# EAGLE library part W5100 (library IC)
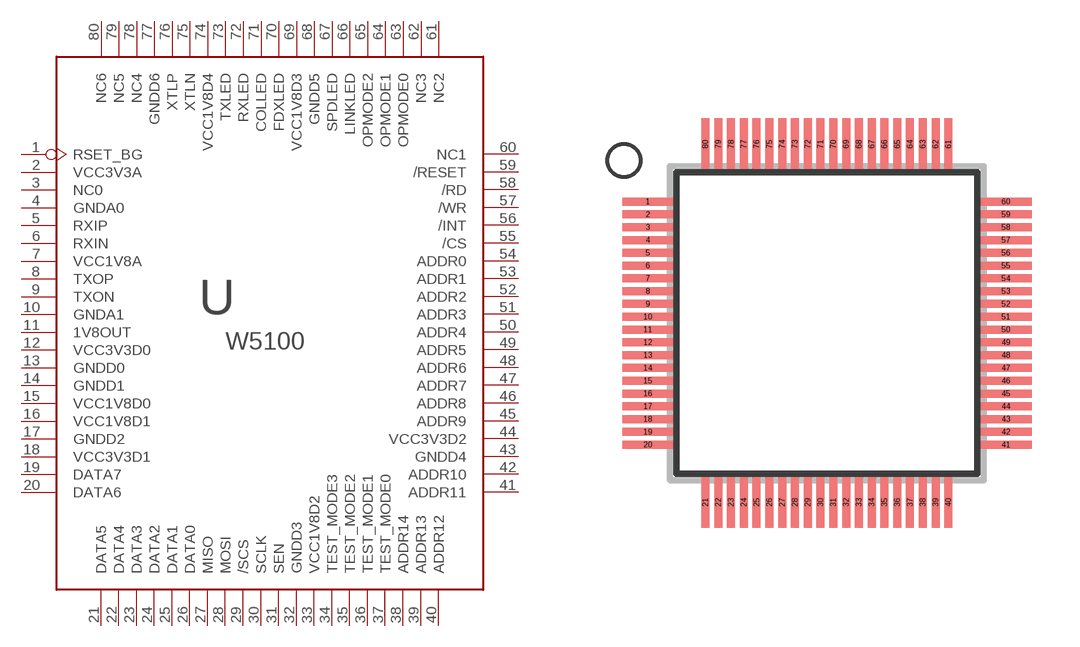
[diagram p154: symbol with the pads of SQFP80; footprint SQFP80]

Designator prefix U

## W5100  [SQFP80]
1  RSET_BG
2  VCC3V3A
3  NC0
4  GNDA0
5  RXIP
6  RXIN
7  VCC1V8A
8  TXOP
9  TXON
10  GNDA1
11  1V8OUT
12  VCC3V3D0
13  GNDD0
14  GNDD1
15  VCC1V8D0
16  VCC1V8D1
17  GNDD2
18  VCC3V3D1
19  DATA7
20  DATA6
21  DATA5
22  DATA4
23  DATA3
24  DATA2
25  DATA1
26  DATA0
27  MISO
28  MOSI
29  /SCS
30  SCLK
31  SEN
32  GNDD3
33  VCC1V8D2
34  TEST_MODE3
35  TEST_MODE2
36  TEST_MODE1
37  TEST_MODE0
38  ADDR14
39  ADDR13
40  ADDR12
41  ADDR11
42  ADDR10
43  GNDD4
44  VCC3V3D2
45  ADDR9
46  ADDR8
47  ADDR7
48  ADDR6
49  ADDR5
50  ADDR4
51  ADDR3
52  ADDR2
53  ADDR1
54  ADDR0
55  /CS
56  /INT
57  /WR
58  /RD
59  /RESET
60  NC1
61  NC2
62  NC3
63  OPMODE0
64  OPMODE1
65  OPMODE2
66  LINKLED
67  SPDLED
68  GNDD5
69  VCC1V8D3
70  FDXLED
71  COLLED
72  RXLED
73  TXLED
74  VCC1V8D4
75  XTLN
76  XTLP
77  GNDD6
78  NC4
79  NC5
80  NC6

## Footprint SQFP80 (pad centres in mm)
QFP80 shrink quad flat pack, square
smd 1.6 x 0.25: 1 -5.6,3.8; 2 -5.6,3.4; 3 -5.6,3; 4 -5.6,2.6; 5 -5.6,2.2; 6 -5.6,1.8; 7 -5.6,1.4; 8 -5.6,1; 9 -5.6,0.6; 10 -5.6,0.2; 11 -5.6,-0.2; 12 -5.6,-0.6; 13 -5.6,-1; 14 -5.6,-1.4; 15 -5.6,-1.8; 16 -5.6,-2.2; 17 -5.6,-2.6; 18 -5.6,-3; 19 -5.6,-3.4; 20 -5.6,-3.8; 41 5.6,-3.8; 42 5.6,-3.4; 43 5.6,-3; 44 5.6,-2.6; 45 5.6,-2.2; 46 5.6,-1.8; 47 5.6,-1.4; 48 5.6,-1; 49 5.6,-0.6; 50 5.6,-0.2; 51 5.6,0.2; 52 5.6,0.6; 53 5.6,1; 54 5.6,1.4; 55 5.6,1.8; 56 5.6,2.2; 57 5.6,2.6; 58 5.6,3; 59 5.6,3.4; 60 5.6,3.8
smd 0.25 x 1.6: 21 -3.8,-5.6; 22 -3.4,-5.6; 23 -3,-5.6; 24 -2.6,-5.6; 25 -2.2,-5.6; 26 -1.8,-5.6; 27 -1.4,-5.6; 28 -1,-5.6; 29 -0.6,-5.6; 30 -0.2,-5.6; 31 0.2,-5.6; 32 0.6,-5.6; 33 1,-5.6; 34 1.4,-5.6; 35 1.8,-5.6; 36 2.2,-5.6; 37 2.6,-5.6; 38 3,-5.6; 39 3.4,-5.6; 40 3.8,-5.6; 61 3.8,5.6; 62 3.4,5.6; 63 3,5.6; 64 2.6,5.6; 65 2.2,5.6; 66 1.8,5.6; 67 1.4,5.6; 68 1,5.6; 69 0.6,5.6; 70 0.2,5.6; 71 -0.2,5.6; 72 -0.6,5.6; 73 -1,5.6; 74 -1.4,5.6; 75 -1.8,5.6; 76 -2.2,5.6; 77 -2.6,5.6; 78 -3,5.6; 79 -3.4,5.6; 80 -3.8,5.6